# EAGLE library part TCA9544APWR (library ds_ic_peripherals)
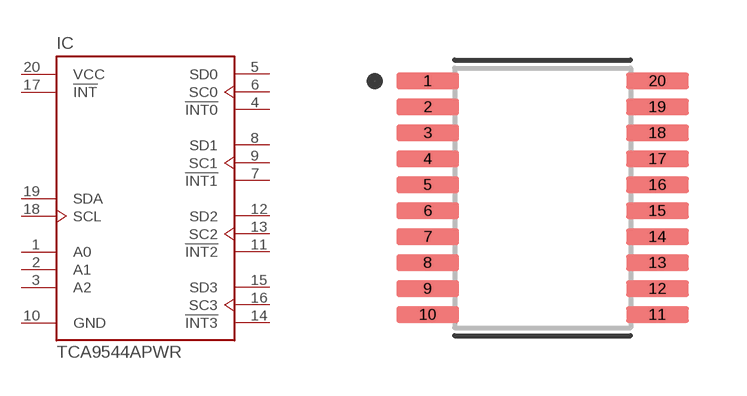
[diagram p51: symbol with the pads of SOP65P640X120-20N; footprint SOP65P640X120-20N]

Designator prefix IC

## TCA9544APWR (DATASHEET: https://www.ti.com/lit/ds/symlink/tca9544a.pdf?ts=1746212145965; MANUFACTURER: Texas Instruments; MAXIMUM_PACKAGE_HEIGHT: 1.2 mm; PARTREV: C; STANDARD: IPC 7351B)  [SOP65P640X120-20N]
1  A0  in
2  A1  in
3  A2  in
4  !INT0  in
5  SD0
6  SC0
7  !INT1  in
8  SD1
9  SC1
10  GND  pwr
11  !INT2  in
12  SD2
13  SC2
14  !INT3  in
15  SD3
16  SC3
17  !INT  out
18  SCL
19  SDA
20  VCC  pwr

## Footprint SOP65P640X120-20N (pad centres in mm)
smd 1.57 x 0.41: 1 -2.87,2.925; 2 -2.87,2.275; 3 -2.87,1.625; 4 -2.87,0.975; 5 -2.87,0.325; 6 -2.87,-0.325; 7 -2.87,-0.975; 8 -2.87,-1.625; 9 -2.87,-2.275; 10 -2.87,-2.925; 11 2.87,-2.925; 12 2.87,-2.275; 13 2.87,-1.625; 14 2.87,-0.975; 15 2.87,-0.325; 16 2.87,0.325; 17 2.87,0.975; 18 2.87,1.625; 19 2.87,2.275; 20 2.87,2.925